# Altium footprint library sod323.PcbLib: 1 footprints
Each footprint in its own frame and in the unit in brackets; x right, y up, seen from the top. Pads: shape width x height; smd on the part's side, far side on the other; paste and mask are expansions set on the pad; w line width, h text height; cw(c..) or ccw(c..) is an arc to the next point about the centre after c.
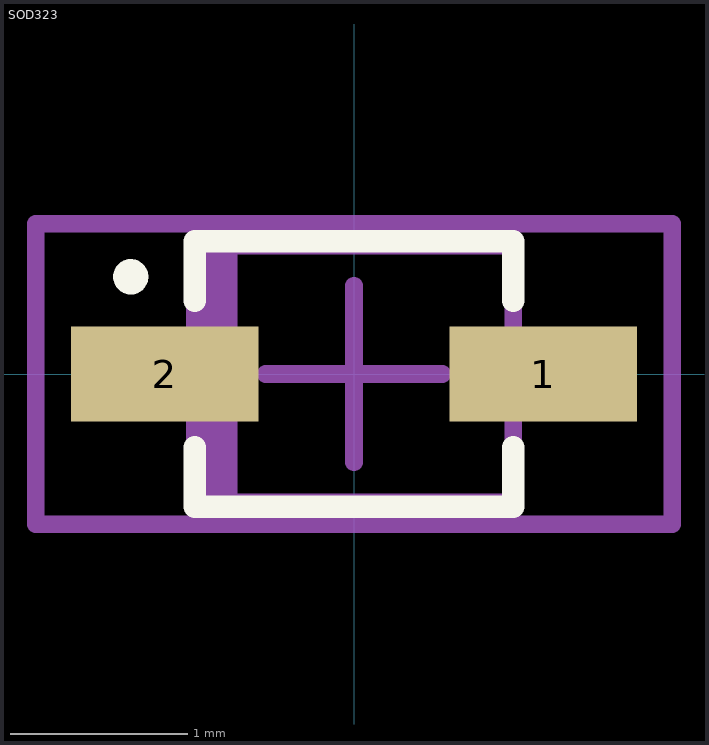
[diagram p0: the footprint, top view; thin cyan lines are the x and y axes]

## SOD323 [mm] "Molded Diode, 2-Leads, Body 1.7x1.3mm, IPC High Density"
height 1.17
pads (2):
  rect 1.06x0.54 smd: 1(1.07,0) 2(-1.07,0)
Top Overlay:
  circle w0.1: c-1.264,0.55 r0.05
  lines w0.127: -0.9,-0.413 -0.9,-0.75 0.9,-0.75 0.9,-0.413 ; -0.9,0.413 -0.9,0.75 0.9,0.75 0.9,0.413
Top 3D Body:
  rectangle: -0.9,-0.725 -0.658,0.725
  lines w0.1: -0.9,-0.725 -0.9,0.725 0.9,0.725 0.9,-0.725 -0.9,-0.725
Top Courtyard:
  lines w0.1: -0.5,0 0.5,0 ; 0,-0.5 0,0.5 ; -1.8,-0.85 -1.8,0.85 1.8,0.85 1.8,-0.85 -1.8,-0.85
3D body "SW3dPS-SOD-323F.STEP": height 0.78, standoff -0.1, extent -1.35,-0.675 1.35,0.675